# Altium footprint library Connector_Hirose.PcbLib: 136 footprints (part 3 of 9)
Each footprint in its own frame and in the unit in brackets; x right, y up, seen from the top. Pads: shape width x height; smd on the part's side, far side on the other; paste and mask are expansions set on the pad; w line width, h text height; cw(c..) or ccw(c..) is an arc to the next point about the centre after c.
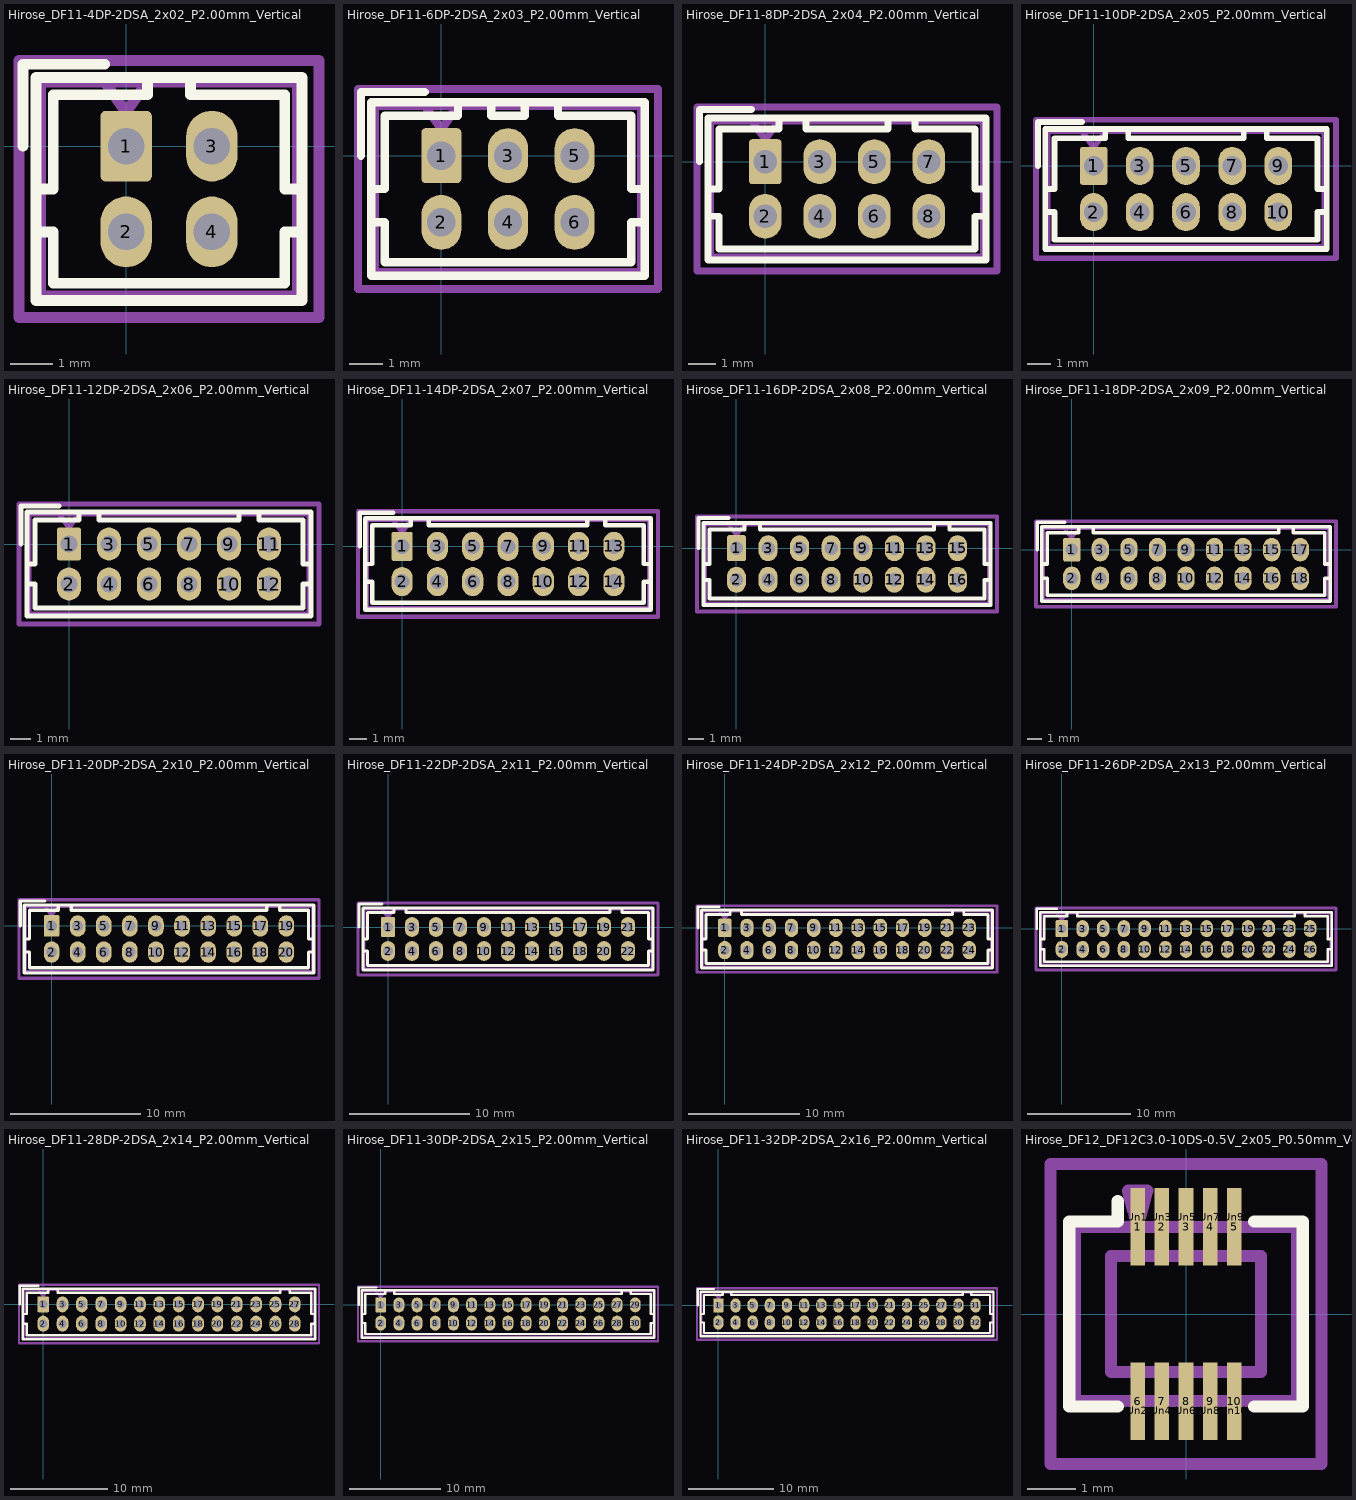
[diagram p2: the footprints below, top view; thin cyan lines are the x and y axes]

## Hirose_DF11-4DP-2DSA_2x02_P2.00mm_Vertical [mm]
pads (4):
  rrect21% 1.2x1.65 hole 0.85: 1(0,0)
  rrect100% 1.2x1.65 hole 0.85: 2(0,-2) 3(2,0) 4(2,-2)
F.SilkS:
  lines w0.254: -2.41,0 -2.41,1.91 -0.5,1.91 ; -2.1,-2 -1.7,-2 -1.7,-3.2 3.7,-3.2 3.7,-2 4.1,-2 ; -2.1,-1 -1.7,-1 -1.7,1.2 0.5,1.2 0.5,1.6 ; 1.5,1.6 1.5,1.2 3.7,1.2 3.7,-1 4.1,-1 ; -2.1,-3.6 4.1,-3.6 4.1,1.6 -2.1,1.6 -2.1,-3.6
Top Assembly:
  lines w0.254: -0.5,1.5 0,0.793 0.5,1.5 ; -2,-3.5 4,-3.5 4,1.5 -2,1.5 -2,-3.5
  text "'.Designator'" at -3.047,-3.64 h1
Top Courtyard:
  lines w0.254: -2.5,-4 4.5,-4 4.5,2 -2.5,2 -2.5,-4
Top Designator:
  text ".Designator" at -6.768,-1.508 h1.52

## Hirose_DF11-6DP-2DSA_2x03_P2.00mm_Vertical [mm]
pads (6):
  rrect21% 1.2x1.65 hole 0.85: 1(0,0)
  rrect100% 1.2x1.65 hole 0.85: 2(0,-2) 3(2,0) 4(2,-2) 5(4,0) 6(4,-2)
F.SilkS:
  lines w0.254: -2.41,0 -2.41,1.91 -0.5,1.91 ; -2.1,-2 -1.7,-2 -1.7,-3.2 5.7,-3.2 5.7,-2 6.1,-2 ; -2.1,-1 -1.7,-1 -1.7,1.2 0.5,1.2 0.5,1.6 ; 1.5,1.6 1.5,1.2 2.5,1.2 2.5,1.6 ; 3.5,1.6 3.5,1.2 5.7,1.2 5.7,-1 6.1,-1 ; -2.1,-3.6 6.1,-3.6 6.1,1.6 -2.1,1.6 -2.1,-3.6
Top Assembly:
  lines w0.254: -0.5,1.5 0,0.793 0.5,1.5 ; -2,-3.5 6,-3.5 6,1.5 -2,1.5 -2,-3.5
  text "'.Designator'" at -2.047,-3.64 h1
Top Courtyard:
  lines w0.254: -2.5,-4 6.5,-4 6.5,2 -2.5,2 -2.5,-4
Top Designator:
  text ".Designator" at -5.618,-1.508 h1.52

## Hirose_DF11-8DP-2DSA_2x04_P2.00mm_Vertical [mm]
pads (8):
  rrect21% 1.2x1.65 hole 0.85: 1(0,0)
  rrect100% 1.2x1.65 hole 0.85: 2(0,-2) 3(2,0) 4(2,-2) 5(4,0) 6(4,-2) 7(6,0) 8(6,-2)
F.SilkS:
  lines w0.254: -2.41,0 -2.41,1.91 -0.5,1.91 ; -2.1,-2 -1.7,-2 -1.7,-3.2 7.7,-3.2 7.7,-2 8.1,-2 ; -2.1,-1 -1.7,-1 -1.7,1.2 0.5,1.2 0.5,1.6 ; 1.5,1.6 1.5,1.2 4.5,1.2 4.5,1.6 ; 5.5,1.6 5.5,1.2 7.7,1.2 7.7,-1 8.1,-1 ; -2.1,-3.6 8.1,-3.6 8.1,1.6 -2.1,1.6 -2.1,-3.6
Top Assembly:
  lines w0.254: -0.5,1.5 0,0.793 0.5,1.5 ; -2,-3.5 8,-3.5 8,1.5 -2,1.5 -2,-3.5
  text "'.Designator'" at -1.047,-3.64 h1
Top Courtyard:
  lines w0.254: -2.5,-4 8.5,-4 8.5,2 -2.5,2 -2.5,-4
Top Designator:
  text ".Designator" at -4.618,-1.508 h1.52

## Hirose_DF11-10DP-2DSA_2x05_P2.00mm_Vertical [mm]
pads (10):
  rrect21% 1.2x1.65 hole 0.85: 1(0,0)
  rrect100% 1.2x1.65 hole 0.85: 2(0,-2) 3(2,0) 4(2,-2) 5(4,0) 6(4,-2) 7(6,0) 8(6,-2) 9(8,0) 10(8,-2)
F.SilkS:
  lines w0.254: -2.41,0 -2.41,1.91 -0.5,1.91 ; -2.1,-2 -1.7,-2 -1.7,-3.2 9.7,-3.2 9.7,-2 10.1,-2 ; -2.1,-1 -1.7,-1 -1.7,1.2 0.5,1.2 0.5,1.6 ; 1.5,1.6 1.5,1.2 6.5,1.2 6.5,1.6 ; 7.5,1.6 7.5,1.2 9.7,1.2 9.7,-1 10.1,-1 ; -2.1,-3.6 10.1,-3.6 10.1,1.6 -2.1,1.6 -2.1,-3.6
Top Assembly:
  lines w0.254: -0.5,1.5 0,0.793 0.5,1.5 ; -2,-3.5 10,-3.5 10,1.5 -2,1.5 -2,-3.5
  text "'.Designator'" at -0.047,-3.64 h1
Top Courtyard:
  lines w0.254: -2.5,-4 10.5,-4 10.5,2 -2.5,2 -2.5,-4
Top Designator:
  text ".Designator" at -3.618,-1.508 h1.52

## Hirose_DF11-12DP-2DSA_2x06_P2.00mm_Vertical [mm]
pads (12):
  rrect21% 1.2x1.65 hole 0.85: 1(0,0)
  rrect100% 1.2x1.65 hole 0.85: 2(0,-2) 3(2,0) 4(2,-2) 5(4,0) 6(4,-2) 7(6,0) 8(6,-2) 9(8,0) 10(8,-2) 11(10,0) 12(10,-2)
F.SilkS:
  lines w0.254: -2.41,0 -2.41,1.91 -0.5,1.91 ; -2.1,-2 -1.7,-2 -1.7,-3.2 11.7,-3.2 11.7,-2 12.1,-2 ; -2.1,-1 -1.7,-1 -1.7,1.2 0.5,1.2 0.5,1.6 ; 1.5,1.6 1.5,1.2 8.5,1.2 8.5,1.6 ; 9.5,1.6 9.5,1.2 11.7,1.2 11.7,-1 12.1,-1 ; -2.1,-3.6 12.1,-3.6 12.1,1.6 -2.1,1.6 -2.1,-3.6
Top Assembly:
  lines w0.254: -0.5,1.5 0,0.793 0.5,1.5 ; -2,-3.5 12,-3.5 12,1.5 -2,1.5 -2,-3.5
  text "'.Designator'" at 0.953,-3.64 h1
Top Courtyard:
  lines w0.254: -2.5,-4 12.5,-4 12.5,2 -2.5,2 -2.5,-4
Top Designator:
  text ".Designator" at -2.618,-1.508 h1.52

## Hirose_DF11-14DP-2DSA_2x07_P2.00mm_Vertical [mm]
pads (14):
  rrect21% 1.2x1.65 hole 0.85: 1(0,0)
  rrect100% 1.2x1.65 hole 0.85: 2(0,-2) 3(2,0) 4(2,-2) 5(4,0) 6(4,-2) 7(6,0) 8(6,-2) 9(8,0) 10(8,-2) 11(10,0) 12(10,-2) 13(12,0) 14(12,-2)
F.SilkS:
  lines w0.254: -2.41,0 -2.41,1.91 -0.5,1.91 ; -2.1,-2 -1.7,-2 -1.7,-3.2 13.7,-3.2 13.7,-2 14.1,-2 ; -2.1,-1 -1.7,-1 -1.7,1.2 0.5,1.2 0.5,1.6 ; 1.5,1.6 1.5,1.2 10.5,1.2 10.5,1.6 ; 11.5,1.6 11.5,1.2 13.7,1.2 13.7,-1 14.1,-1 ; -2.1,-3.6 14.1,-3.6 14.1,1.6 -2.1,1.6 -2.1,-3.6
Top Assembly:
  lines w0.254: -0.5,1.5 0,0.793 0.5,1.5 ; -2,-3.5 14,-3.5 14,1.5 -2,1.5 -2,-3.5
  text "'.Designator'" at 1.953,-3.64 h1
Top Courtyard:
  lines w0.254: -2.5,-4 14.5,-4 14.5,2 -2.5,2 -2.5,-4
Top Designator:
  text ".Designator" at -1.618,-1.508 h1.52

## Hirose_DF11-16DP-2DSA_2x08_P2.00mm_Vertical [mm]
pads (16):
  rrect21% 1.2x1.65 hole 0.85: 1(0,0)
  rrect100% 1.2x1.65 hole 0.85: 2(0,-2) 3(2,0) 4(2,-2) 5(4,0) 6(4,-2) 7(6,0) 8(6,-2) 9(8,0) 10(8,-2) 11(10,0) 12(10,-2) 13(12,0) 14(12,-2) 15(14,0) 16(14,-2)
F.SilkS:
  lines w0.254: -2.41,0 -2.41,1.91 -0.5,1.91 ; -2.1,-2 -1.7,-2 -1.7,-3.2 15.7,-3.2 15.7,-2 16.1,-2 ; -2.1,-1 -1.7,-1 -1.7,1.2 0.5,1.2 0.5,1.6 ; 1.5,1.6 1.5,1.2 12.5,1.2 12.5,1.6 ; 13.5,1.6 13.5,1.2 15.7,1.2 15.7,-1 16.1,-1 ; -2.1,-3.6 16.1,-3.6 16.1,1.6 -2.1,1.6 -2.1,-3.6
Top Assembly:
  lines w0.254: -0.5,1.5 0,0.793 0.5,1.5 ; -2,-3.5 16,-3.5 16,1.5 -2,1.5 -2,-3.5
  text "'.Designator'" at 2.953,-3.64 h1
Top Courtyard:
  lines w0.254: -2.5,-4 16.5,-4 16.5,2 -2.5,2 -2.5,-4
Top Designator:
  text ".Designator" at -0.618,-1.508 h1.52

## Hirose_DF11-18DP-2DSA_2x09_P2.00mm_Vertical [mm]
pads (18):
  rrect21% 1.2x1.65 hole 0.85: 1(0,0)
  rrect100% 1.2x1.65 hole 0.85: 2(0,-2) 3(2,0) 4(2,-2) 5(4,0) 6(4,-2) 7(6,0) 8(6,-2) 9(8,0) 10(8,-2) 11(10,0) 12(10,-2) 13(12,0) 14(12,-2) 15(14,0) 16(14,-2) 17(16,0) 18(16,-2)
F.SilkS:
  lines w0.254: -2.41,0 -2.41,1.91 -0.5,1.91 ; -2.1,-2 -1.7,-2 -1.7,-3.2 17.7,-3.2 17.7,-2 18.1,-2 ; -2.1,-1 -1.7,-1 -1.7,1.2 0.5,1.2 0.5,1.6 ; 1.5,1.6 1.5,1.2 14.5,1.2 14.5,1.6 ; 15.5,1.6 15.5,1.2 17.7,1.2 17.7,-1 18.1,-1 ; -2.1,-3.6 18.1,-3.6 18.1,1.6 -2.1,1.6 -2.1,-3.6
Top Assembly:
  lines w0.254: -0.5,1.5 0,0.793 0.5,1.5 ; -2,-3.5 18,-3.5 18,1.5 -2,1.5 -2,-3.5
  text "'.Designator'" at 3.953,-3.64 h1
Top Courtyard:
  lines w0.254: -2.5,-4 18.5,-4 18.5,2 -2.5,2 -2.5,-4
Top Designator:
  text ".Designator" at 0.382,-1.508 h1.52

## Hirose_DF11-20DP-2DSA_2x10_P2.00mm_Vertical [mm]
pads (20):
  rrect21% 1.2x1.65 hole 0.85: 1(0,0)
  rrect100% 1.2x1.65 hole 0.85: 2(0,-2) 3(2,0) 4(2,-2) 5(4,0) 6(4,-2) 7(6,0) 8(6,-2) 9(8,0) 10(8,-2) 11(10,0) 12(10,-2) 13(12,0) 14(12,-2) 15(14,0) 16(14,-2) 17(16,0) 18(16,-2) 19(18,0) 20(18,-2)
F.SilkS:
  lines w0.254: -2.41,0 -2.41,1.91 -0.5,1.91 ; -2.1,-2 -1.7,-2 -1.7,-3.2 19.7,-3.2 19.7,-2 20.1,-2 ; -2.1,-1 -1.7,-1 -1.7,1.2 0.5,1.2 0.5,1.6 ; 1.5,1.6 1.5,1.2 16.5,1.2 16.5,1.6 ; 17.5,1.6 17.5,1.2 19.7,1.2 19.7,-1 20.1,-1 ; -2.1,-3.6 20.1,-3.6 20.1,1.6 -2.1,1.6 -2.1,-3.6
Top Assembly:
  lines w0.254: -0.5,1.5 0,0.793 0.5,1.5 ; -2,-3.5 20,-3.5 20,1.5 -2,1.5 -2,-3.5
  text "'.Designator'" at 4.953,-3.64 h1
Top Courtyard:
  lines w0.254: -2.5,-4 20.5,-4 20.5,2 -2.5,2 -2.5,-4
Top Designator:
  text ".Designator" at 1.382,-1.508 h1.52

## Hirose_DF11-22DP-2DSA_2x11_P2.00mm_Vertical [mm]
pads (22):
  rrect21% 1.2x1.65 hole 0.85: 1(0,0)
  rrect100% 1.2x1.65 hole 0.85: 2(0,-2) 3(2,0) 4(2,-2) 5(4,0) 6(4,-2) 7(6,0) 8(6,-2) 9(8,0) 10(8,-2) 11(10,0) 12(10,-2) 13(12,0) 14(12,-2) 15(14,0) 16(14,-2) 17(16,0) 18(16,-2) 19(18,0) 20(18,-2) 21(20,0) 22(20,-2)
F.SilkS:
  lines w0.254: -2.41,0 -2.41,1.91 -0.5,1.91 ; -2.1,-2 -1.7,-2 -1.7,-3.2 21.7,-3.2 21.7,-2 22.1,-2 ; -2.1,-1 -1.7,-1 -1.7,1.2 0.5,1.2 0.5,1.6 ; 1.5,1.6 1.5,1.2 18.5,1.2 18.5,1.6 ; 19.5,1.6 19.5,1.2 21.7,1.2 21.7,-1 22.1,-1 ; -2.1,-3.6 22.1,-3.6 22.1,1.6 -2.1,1.6 -2.1,-3.6
Top Assembly:
  lines w0.254: -0.5,1.5 0,0.793 0.5,1.5 ; -2,-3.5 22,-3.5 22,1.5 -2,1.5 -2,-3.5
  text "'.Designator'" at 5.953,-3.64 h1
Top Courtyard:
  lines w0.254: -2.5,-4 22.5,-4 22.5,2 -2.5,2 -2.5,-4
Top Designator:
  text ".Designator" at 2.382,-1.508 h1.52

## Hirose_DF11-24DP-2DSA_2x12_P2.00mm_Vertical [mm]
pads (24):
  rrect21% 1.2x1.65 hole 0.85: 1(0,0)
  rrect100% 1.2x1.65 hole 0.85: 2(0,-2) 3(2,0) 4(2,-2) 5(4,0) 6(4,-2) 7(6,0) 8(6,-2) 9(8,0) 10(8,-2) 11(10,0) 12(10,-2) 13(12,0) 14(12,-2) 15(14,0) 16(14,-2) 17(16,0) 18(16,-2) 19(18,0) 20(18,-2) 21(20,0) 22(20,-2) 23(22,0) 24(22,-2)
F.SilkS:
  lines w0.254: -2.41,0 -2.41,1.91 -0.5,1.91 ; -2.1,-2 -1.7,-2 -1.7,-3.2 23.7,-3.2 23.7,-2 24.1,-2 ; -2.1,-1 -1.7,-1 -1.7,1.2 0.5,1.2 0.5,1.6 ; 1.5,1.6 1.5,1.2 20.5,1.2 20.5,1.6 ; 21.5,1.6 21.5,1.2 23.7,1.2 23.7,-1 24.1,-1 ; -2.1,-3.6 24.1,-3.6 24.1,1.6 -2.1,1.6 -2.1,-3.6
Top Assembly:
  lines w0.254: -0.5,1.5 0,0.793 0.5,1.5 ; -2,-3.5 24,-3.5 24,1.5 -2,1.5 -2,-3.5
  text "'.Designator'" at 6.953,-3.64 h1
Top Courtyard:
  lines w0.254: -2.5,-4 24.5,-4 24.5,2 -2.5,2 -2.5,-4
Top Designator:
  text ".Designator" at 3.382,-1.508 h1.52

## Hirose_DF11-26DP-2DSA_2x13_P2.00mm_Vertical [mm]
pads (26):
  rrect21% 1.2x1.65 hole 0.85: 1(0,0)
  rrect100% 1.2x1.65 hole 0.85: 2(0,-2) 3(2,0) 4(2,-2) 5(4,0) 6(4,-2) 7(6,0) 8(6,-2) 9(8,0) 10(8,-2) 11(10,0) 12(10,-2) 13(12,0) 14(12,-2) 15(14,0) 16(14,-2) 17(16,0) 18(16,-2) 19(18,0) 20(18,-2) 21(20,0) 22(20,-2) 23(22,0) 24(22,-2) 25(24,0) 26(24,-2)
F.SilkS:
  lines w0.254: -2.41,0 -2.41,1.91 -0.5,1.91 ; -2.1,-2 -1.7,-2 -1.7,-3.2 25.7,-3.2 25.7,-2 26.1,-2 ; -2.1,-1 -1.7,-1 -1.7,1.2 0.5,1.2 0.5,1.6 ; 1.5,1.6 1.5,1.2 22.5,1.2 22.5,1.6 ; 23.5,1.6 23.5,1.2 25.7,1.2 25.7,-1 26.1,-1 ; -2.1,-3.6 26.1,-3.6 26.1,1.6 -2.1,1.6 -2.1,-3.6
Top Assembly:
  lines w0.254: -0.5,1.5 0,0.793 0.5,1.5 ; -2,-3.5 26,-3.5 26,1.5 -2,1.5 -2,-3.5
  text "'.Designator'" at 7.953,-3.64 h1
Top Courtyard:
  lines w0.254: -2.5,-4 26.5,-4 26.5,2 -2.5,2 -2.5,-4
Top Designator:
  text ".Designator" at 4.382,-1.508 h1.52

## Hirose_DF11-28DP-2DSA_2x14_P2.00mm_Vertical [mm]
pads (28):
  rrect21% 1.2x1.65 hole 0.85: 1(0,0)
  rrect100% 1.2x1.65 hole 0.85: 2(0,-2) 3(2,0) 4(2,-2) 5(4,0) 6(4,-2) 7(6,0) 8(6,-2) 9(8,0) 10(8,-2) 11(10,0) 12(10,-2) 13(12,0) 14(12,-2) 15(14,0) 16(14,-2) 17(16,0) 18(16,-2) 19(18,0) 20(18,-2) 21(20,0) 22(20,-2) 23(22,0) 24(22,-2) 25(24,0) 26(24,-2) 27(26,0) 28(26,-2)
F.SilkS:
  lines w0.254: -2.41,0 -2.41,1.91 -0.5,1.91 ; -2.1,-2 -1.7,-2 -1.7,-3.2 27.7,-3.2 27.7,-2 28.1,-2 ; -2.1,-1 -1.7,-1 -1.7,1.2 0.5,1.2 0.5,1.6 ; 1.5,1.6 1.5,1.2 24.5,1.2 24.5,1.6 ; 25.5,1.6 25.5,1.2 27.7,1.2 27.7,-1 28.1,-1 ; -2.1,-3.6 28.1,-3.6 28.1,1.6 -2.1,1.6 -2.1,-3.6
Top Assembly:
  lines w0.254: -0.5,1.5 0,0.793 0.5,1.5 ; -2,-3.5 28,-3.5 28,1.5 -2,1.5 -2,-3.5
  text "'.Designator'" at 8.953,-3.64 h1
Top Courtyard:
  lines w0.254: -2.5,-4 28.5,-4 28.5,2 -2.5,2 -2.5,-4
Top Designator:
  text ".Designator" at 5.382,-1.508 h1.52

## Hirose_DF11-30DP-2DSA_2x15_P2.00mm_Vertical [mm]
pads (30):
  rrect21% 1.2x1.65 hole 0.85: 1(0,0)
  rrect100% 1.2x1.65 hole 0.85: 2(0,-2) 3(2,0) 4(2,-2) 5(4,0) 6(4,-2) 7(6,0) 8(6,-2) 9(8,0) 10(8,-2) 11(10,0) 12(10,-2) 13(12,0) 14(12,-2) 15(14,0) 16(14,-2) 17(16,0) 18(16,-2) 19(18,0) 20(18,-2) 21(20,0) 22(20,-2) 23(22,0) 24(22,-2) 25(24,0) 26(24,-2) 27(26,0) 28(26,-2) 29(28,0) 30(28,-2)
F.SilkS:
  lines w0.254: -2.41,0 -2.41,1.91 -0.5,1.91 ; -2.1,-2 -1.7,-2 -1.7,-3.2 29.7,-3.2 29.7,-2 30.1,-2 ; -2.1,-1 -1.7,-1 -1.7,1.2 0.5,1.2 0.5,1.6 ; 1.5,1.6 1.5,1.2 26.5,1.2 26.5,1.6 ; 27.5,1.6 27.5,1.2 29.7,1.2 29.7,-1 30.1,-1 ; -2.1,-3.6 30.1,-3.6 30.1,1.6 -2.1,1.6 -2.1,-3.6
Top Assembly:
  lines w0.254: -0.5,1.5 0,0.793 0.5,1.5 ; -2,-3.5 30,-3.5 30,1.5 -2,1.5 -2,-3.5
  text "'.Designator'" at 9.953,-3.64 h1
Top Courtyard:
  lines w0.254: -2.5,-4 30.5,-4 30.5,2 -2.5,2 -2.5,-4
Top Designator:
  text ".Designator" at 6.382,-1.508 h1.52

## Hirose_DF11-32DP-2DSA_2x16_P2.00mm_Vertical [mm]
pads (32):
  rrect21% 1.2x1.65 hole 0.85: 1(0,0)
  rrect100% 1.2x1.65 hole 0.85: 2(0,-2) 3(2,0) 4(2,-2) 5(4,0) 6(4,-2) 7(6,0) 8(6,-2) 9(8,0) 10(8,-2) 11(10,0) 12(10,-2) 13(12,0) 14(12,-2) 15(14,0) 16(14,-2) 17(16,0) 18(16,-2) 19(18,0) 20(18,-2) 21(20,0) 22(20,-2) 23(22,0) 24(22,-2) 25(24,0) 26(24,-2) 27(26,0) 28(26,-2) 29(28,0) 30(28,-2) 31(30,0) 32(30,-2)
F.SilkS:
  lines w0.254: -2.41,0 -2.41,1.91 -0.5,1.91 ; -2.1,-2 -1.7,-2 -1.7,-3.2 31.7,-3.2 31.7,-2 32.1,-2 ; -2.1,-1 -1.7,-1 -1.7,1.2 0.5,1.2 0.5,1.6 ; 1.5,1.6 1.5,1.2 28.5,1.2 28.5,1.6 ; 29.5,1.6 29.5,1.2 31.7,1.2 31.7,-1 32.1,-1 ; -2.1,-3.6 32.1,-3.6 32.1,1.6 -2.1,1.6 -2.1,-3.6
Top Assembly:
  lines w0.254: -0.5,1.5 0,0.793 0.5,1.5 ; -2,-3.5 32,-3.5 32,1.5 -2,1.5 -2,-3.5
  text "'.Designator'" at 10.953,-3.64 h1
Top Courtyard:
  lines w0.254: -2.5,-4 32.5,-4 32.5,2 -2.5,2 -2.5,-4
Top Designator:
  text ".Designator" at 7.382,-1.508 h1.52

## Hirose_DF12_DF12C3.0-10DS-0.5V_2x05_P0.50mm_Vertical [mm]
pads (20):
  rect 0.3x1.6 smd: 1(-1,1.8) 2(-0.5,1.8) 3(0,1.8) 4(0.5,1.8) 5(1,1.8) 6(-1,-1.8) 7(-0.5,-1.8) 8(0,-1.8) 9(0.5,-1.8) 10(1,-1.8)
  rect 0.28x1.2 on Top Paste: Un1(-1,2) Un2(-1,-2) Un3(-0.5,2) Un4(-0.5,-2) Un5(0,2) Un6(0,-2) Un7(0.5,2) Un8(0.5,-2) Un9(1,2) Un10(1,-2)
F.SilkS:
  lines w0.254: -1.41,-1.91 -2.41,-1.91 -2.41,1.91 -1.41,1.91 -1.41,2.333 ; 1.41,-1.91 2.41,-1.91 2.41,1.91 1.41,1.91
Top Assembly:
  lines w0.254: -2.3,-1.8 2.3,-1.8 2.3,1.8 -2.3,1.8 -2.3,-1.8 ; -1.55,-1.2 1.55,-1.2 1.55,1.2 -1.55,1.2 -1.55,-1.2 ; -1.2,2.55 -0.8,2.55 -1,1.8 -1.2,2.55
  text "'.Designator'" at -4.047,0.26 h1
Top Courtyard:
  lines w0.254: -2.8,-3.1 2.8,-3.1 2.8,3.1 -2.8,3.1 -2.8,-3.1
Top Designator:
  text ".Designator" at -7.768,-0.508 h1.52